# Altium schematic symbol library 51库.SCHLIB: 14 symbols
Pins are listed as number, name and electrical type; pins without a type are passive.

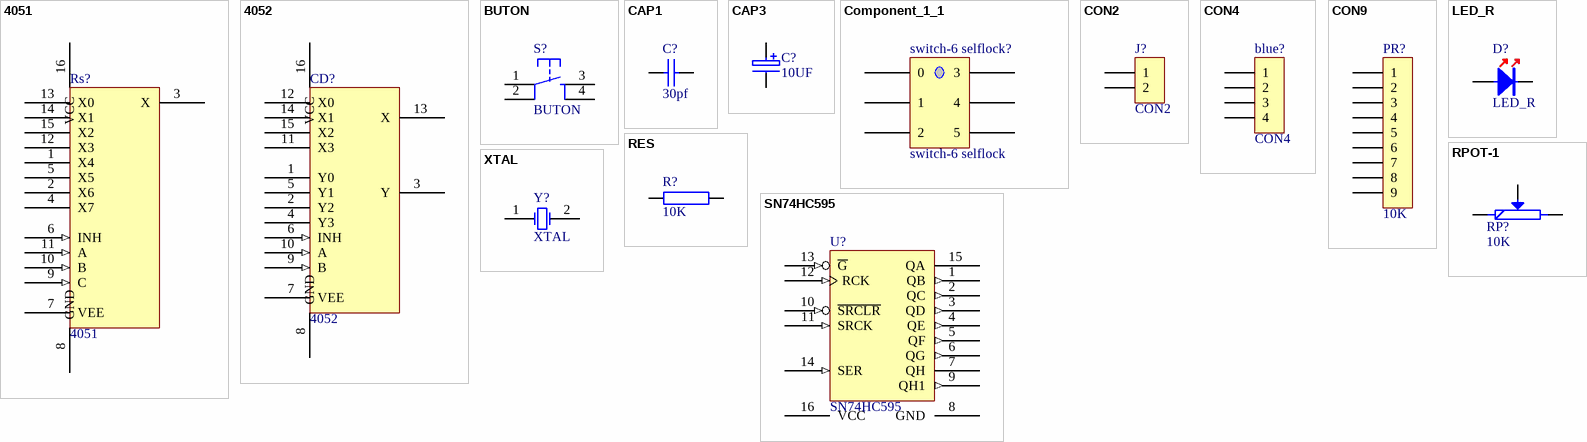
[diagram p0: symbols 4051 to XTAL]

## 4051
designator Rs?
footprint DIP-16
footprint CD4051 NSG
pins: 1 X4, 2 X6, 3 X, 4 X7, 5 X5, 6 INH (in), 7 VEE, 8 GND (power), 9 C (in), 10 B (in), 11 A (in), 12 X3, 13 X0, 14 X1, 15 X2, 16 VCC (power)

## 4052
designator CD?
footprint DIP-16
footprint CD4052
pins: 1 Y0, 2 Y2, 3 Y, 4 Y3, 5 Y1, 6 INH (in), 7 VEE, 8 GND (power), 9 B (in), 10 A (in), 11 X3, 12 X0, 13 X, 14 X1, 15 X2, 16 VCC (power)

## BUTON
designator S?
footprint TACTILE-PTH (直插按钮)
pins: 1, 2, 3, 4

## CAP1
designator C?, comment 30pf
footprint 0805 (Chip Resistor, 2-Leads, Body 2.0x1.3mm, IPC Medium Density)
footprint CAP2
footprint 0603
footprint 1206
footprint CAP4
pins: 1, 2

## CAP3
designator C?, comment 10UF
footprint CA3216 (Molded Capacitor, 2-Leads, Body 3.3x1.7mm, IPC Medium Density)
footprint CC6032 (Molded Capacitor, 2-Leads, Body 6.1x3.3mm, IPC Medium Density)
footprint CD7343 (Molded Capacitor, 2-Leads, Body 7.4x4.3mm, IPC Medium Density)
footprint CAO1
footprint CAO2
footprint C18
footprint CT0804 (8mm×4mm,直插改表贴)
footprint C12
footprint C14
footprint C16
footprint C18
footprint C22
footprint CAO5
footprint CAO6
footprint CB3528 (Molded Capacitor, 2-Leads, Body 3.6x2.9mm, IPC Medium Density)
pins: 1, 2

## Component_1_1
designator switch-6 selflock?, comment switch-6 selflock
footprint switch-6 lockself
footprint switch-6 lockself
pins: 0, 1, 2, 3, 4, 5

## CON2
designator J?
Connector
footprint sip-2
footprint 2P-200
footprint SIP-2W (7mm×5mm，白色底座)
pins: 1, 2

## CON4
designator blue?
Connector
footprint sip-4
pins: 1, 2, 3, 4

## CON9
designator PR?, comment 10K
Connector
footprint sip-9
pins: 1, 2, 3, 4, 5, 6, 7, 8, 9

## LED_R
designator D?
footprint LED1_R (3mm)
footprint LED_0805
footprint LED_1206
footprint LED2_R (5mm)
pins: 1, 2

## RES
designator R?, comment 10K
电阻
footprint 0603
footprint 0805
footprint 1206
footprint AXIAL0.4
footprint AXIAL0.5
footprint AXIAL0.6
pins: 1, 2

## RPOT-1
designator RP?, comment 10K
普通电位器
footprint RVR-A
footprint RVR-7
footprint RVR-4 (Top Preset Potentiometer,3296W)
footprint RVR-2
pins: 1, 2 M, 3

## SN74HC595
designator U?
8-BIT SFT REG WIRTH OUTPUT LCH
footprint SO16
footprint DIP-16
pins: 1 QB (out), 2 QC (out), 3 QD (out), 4 QE (out), 5 QF (out), 6 QG (out), 7 QH (hiz), 8 GND (power), 9 QH1 (out), 10 ~{SRCLR} (in), 11 SRCK (in), 12 RCK (in), 13 ~{G} (in), 14 SER (in), 15 QA (hiz), 16 VCC (power)
1 alternate drawing of the same symbol

## XTAL
designator Y?
晶体振荡器; Published: 8-Jun-2000; LatestRevisionDate: 17-Jul-2002; LatestRevisionNote: Re-released for DXP Platform.; PackageReference: R38; Publisher: Altium Limited
footprint XTAL-RAD-0.2 (Radial Cap, Thru-Hole; 2 Leads; 0.2 in Pin Spacing)
pins: 1 OSC1, 2 OSC2